# Altium schematic symbol library Dual Schottky Series.SchLib: 1 symbol
Pins are listed as number, name and electrical type; pins without a type are passive.

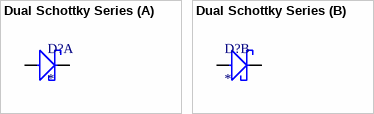
[diagram p0: symbol Dual Schottky Series]

## Dual Schottky Series
designator D?
part A pins: A, COM
part B pins: C, COM